# EAGLE library part TMUX1209PWR (library TMUX1209PWR)
2-ch, 4:1 general purpose analog multiplexer with 1.8-V logic control Source: Datasheet <http://www.ti.com/lit/gpn/TMUX1209>
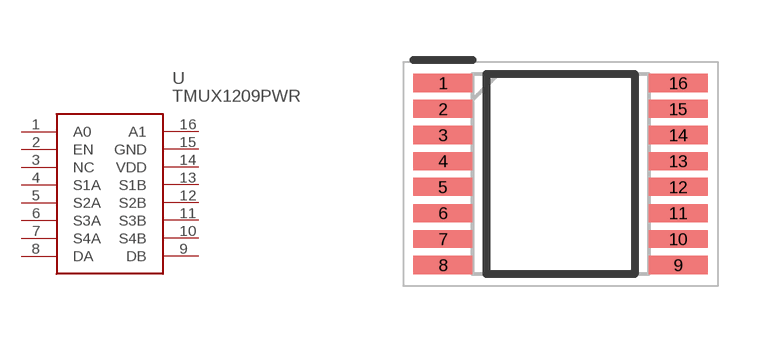
[diagram p0: symbol with the pads of SOP65P640X120-16N; footprint SOP65P640X120-16N]

Designator prefix U

## TMUX1209PWR (Arrow_Part_Number: TMUX1209PWR; Arrow_Price-Stock: https://www.arrow.com/en/products/tmux1209pwr/texas-instruments?utm_currency=USD&region=europe; Description: 2-ch, 4:1 general purpose analog multiplexer with 1.8-V logic control; Height: 1.2mm; Manufacturer_Name: Texas Instruments; Manufacturer_Part_Number: TMUX1209PWR; Mouser_Part_Number: 595-TMUX1209PWR; Mouser_Price-Stock: https://www.mouser.co.uk/ProductDetail/Texas-Instruments/TMUX1209PWR?qs=l7cgNqFNU1gbdZeh0oWOOQ%3D%3D)  [SOP65P640X120-16N]
1  A0  in
2  EN  in
3  NC  nc
4  S1A
5  S2A
6  S3A
7  S4A
8  DA
9  DB
10  S4B
11  S3B
12  S2B
13  S1B
14  VDD  pwr
15  GND  pwr
16  A1  in

## Footprint SOP65P640X120-16N (pad centres in mm)
PW0016A
smd 1.475 x 0.45: 1 -2.938,2.275; 2 -2.938,1.625; 3 -2.938,0.975; 4 -2.938,0.325; 5 -2.938,-0.325; 6 -2.938,-0.975; 7 -2.938,-1.625; 8 -2.938,-2.275; 9 2.938,-2.275; 10 2.938,-1.625; 11 2.938,-0.975; 12 2.938,-0.325; 13 2.938,0.325; 14 2.938,0.975; 15 2.938,1.625; 16 2.938,2.275